# EAGLE library part ATMEGA328P (library Eagle CMR)
ATMEGA328P 8-bit AVR Microcontroller
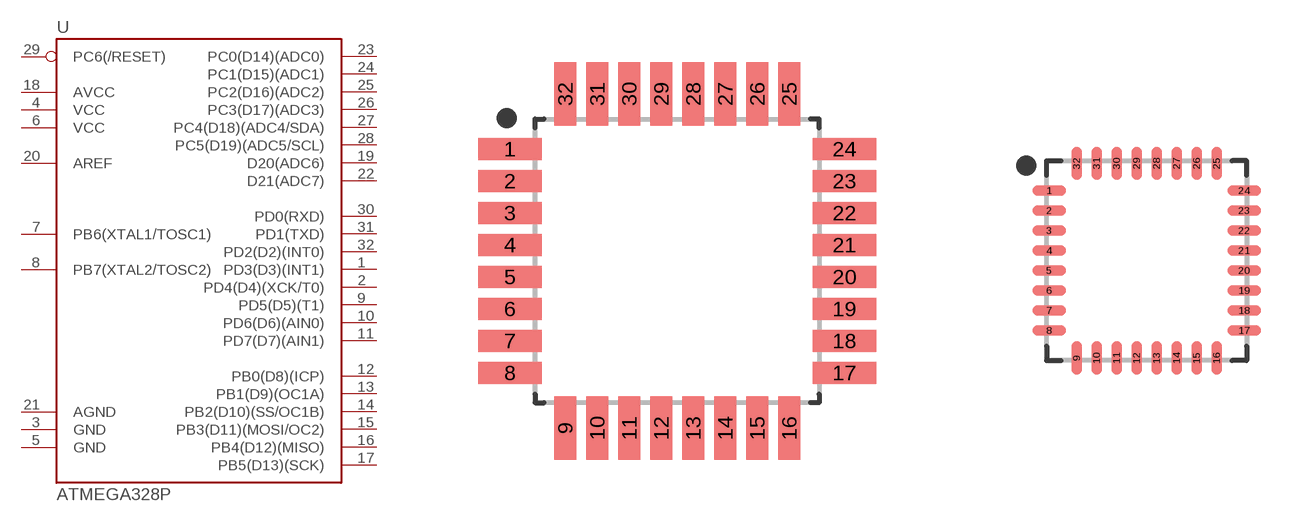
[diagram p27: symbol with the pads of TQFP-32N; footprints TQFP-32N, QFN50P500X500X100-32N]

Designator prefix U

## ATMEGA328PTQFP  [TQFP-32N]
1  PD3(D3)(INT1)
2  PD4(D4)(XCK/T0)
3  GND
4  VCC
5  GND
6  VCC
7  PB6(XTAL1/TOSC1)
8  PB7(XTAL2/TOSC2)
9  PD5(D5)(T1)
10  PD6(D6)(AIN0)
11  PD7(D7)(AIN1)
12  PB0(D8)(ICP)
13  PB1(D9)(OC1A)
14  PB2(D10)(SS/OC1B)
15  PB3(D11)(MOSI/OC2)
16  PB4(D12)(MISO)
17  PB5(D13)(SCK)
18  AVCC
19  D20(ADC6)
20  AREF
21  AGND
22  D21(ADC7)
23  PC0(D14)(ADC0)
24  PC1(D15)(ADC1)
25  PC2(D16)(ADC2)
26  PC3(D17)(ADC3)
27  PC4(D18)(ADC4/SDA)
28  PC5(D19)(ADC5/SCL)
29  PC6(/RESET)
30  PD0(RXD)
31  PD1(TXD)
32  PD2(D2)(INT0)

## ATMEGA328P-MU (LCSC#: C38896; LCSC_LINK: https://lcsc.com/product-detail/ATMEL-AVR_ATMEL_ATMEGA328P-MU_ATMEGA328P-MU_C38896.html/; MANUFACTURER: Microchip Technology; MFR#: ATMEGA328P-MU)  [QFN50P500X500X100-32N]
Pads as for TQFP-32N

## Footprint TQFP-32N (pad centres in mm)
32-QFP, 0.80 mm pitch, 9.00 mm span, 7.00 X 7.00 X 1.20 mm body 32-pin QFP package with 0.80 mm pitch, 9.00 mm lead span1 X 9.00 mm lead span2 with body size 7.00 X 7.00 X 1.20 mm
smd 1.6 x 0.547: 1 -4.181,2.8; 2 -4.181,2; 3 -4.181,1.2; 4 -4.181,0.4; 5 -4.181,-0.4; 6 -4.181,-1.2; 7 -4.181,-2; 8 -4.181,-2.8; 17 4.181,-2.8; 18 4.181,-2; 19 4.181,-1.2; 20 4.181,-0.4; 21 4.181,0.4; 22 4.181,1.2; 23 4.181,2; 24 4.181,2.8
smd 0.547 x 1.6: 9 -2.8,-4.181; 10 -2,-4.181; 11 -1.2,-4.181; 12 -0.4,-4.181; 13 0.4,-4.181; 14 1.2,-4.181; 15 2,-4.181; 16 2.8,-4.181; 25 2.8,4.181; 26 2,4.181; 27 1.2,4.181; 28 0.4,4.181; 29 -0.4,4.181; 30 -1.2,4.181; 31 -2,4.181; 32 -2.8,4.181

## Footprint QFN50P500X500X100-32N (pad centres in mm)
32-QFN, 0.50 mm pitch, 5.00 X 5.00 X 1.00 mm body 32-pin QFN package with 0.50 mm pitch with body size 5.00 X 5.00 X 1.00 mm
smd 0.837 x 0.264: 1 -2.437,1.75; 2 -2.437,1.25; 3 -2.437,0.75; 4 -2.437,0.25; 5 -2.437,-0.25; 6 -2.437,-0.75; 7 -2.437,-1.25; 8 -2.437,-1.75; 17 2.437,-1.75; 18 2.437,-1.25; 19 2.437,-0.75; 20 2.437,-0.25; 21 2.437,0.25; 22 2.437,0.75; 23 2.437,1.25; 24 2.437,1.75
smd 0.264 x 0.837: 9 -1.75,-2.437; 10 -1.25,-2.437; 11 -0.75,-2.437; 12 -0.25,-2.437; 13 0.25,-2.437; 14 0.75,-2.437; 15 1.25,-2.437; 16 1.75,-2.437; 25 1.75,2.437; 26 1.25,2.437; 27 0.75,2.437; 28 0.25,2.437; 29 -0.25,2.437; 30 -0.75,2.437; 31 -1.25,2.437; 32 -1.75,2.437